# Altium footprint library UQFN-16.PcbLib: 1 footprints
Each footprint in its own frame and in the unit in brackets; x right, y up, seen from the top. Pads: shape width x height; smd on the part's side, far side on the other; paste and mask are expansions set on the pad; w line width, h text height; cw(c..) or ccw(c..) is an arc to the next point about the centre after c.
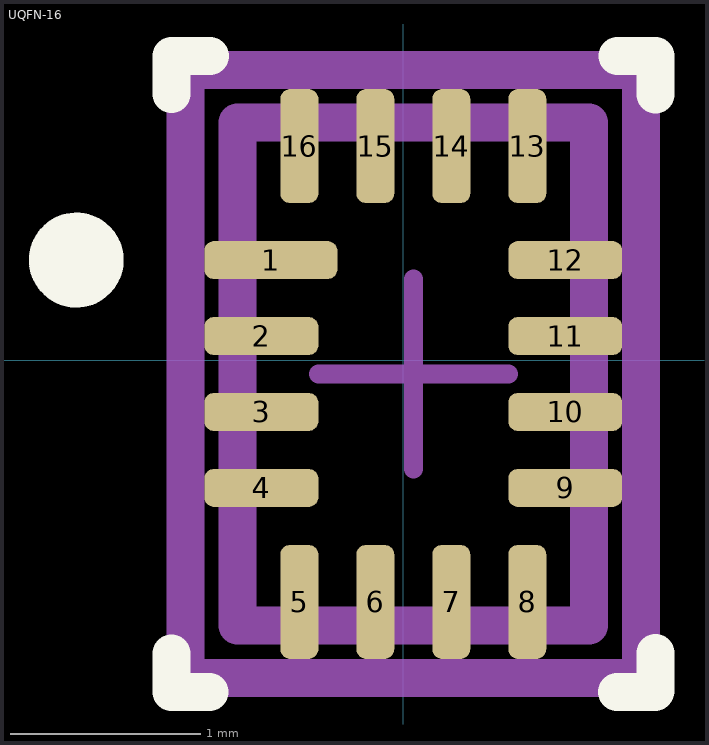
[diagram p0: the footprint, top view; thin cyan lines are the x and y axes]

## UQFN-16 [mm]
pads (16):
  rrect50% 0.7x0.2 smd paste+0 mask+0: 1(-0.696,0.527)
  rrect50% 0.6x0.2 smd paste+0 mask+0: 2(-0.746,0.127) 3(-0.746,-0.273) 4(-0.746,-0.673) 9(0.854,-0.673) 10(0.854,-0.273) 11(0.854,0.127) 12(0.854,0.527)
  rrect50% 0.2x0.6 smd paste+0 mask+0: 5(-0.546,-1.273) 6(-0.146,-1.273) 7(0.254,-1.273) 8(0.654,-1.273) 13(0.654,1.127) 14(0.254,1.127) 15(-0.146,1.127) 16(-0.546,1.127)
Top Overlay:
  circle w0.25: c-1.721,0.527 r0.125
  lines w0.2: -1.22,-1.744 -1.22,-1.544 ; -1.22,-1.748 -1.02,-1.748 ; -1.219,1.402 -1.219,1.602 ; -1.216,1.602 -1.016,1.602 ; 1.126,-1.747 1.326,-1.747 ; 1.128,1.602 1.328,1.602 ; 1.329,-1.742 1.329,-1.542 ; 1.329,1.399 1.329,1.599
Top Assembly:
  lines w0.2: -1.146,-1.673 1.254,-1.673 1.254,1.527 -1.146,1.527 -1.146,-1.673
  text ".Designator" at -0.073,0.242 h1
Top 3D Body:
  lines w0.2: -0.871,-1.398 0.979,-1.398 0.979,1.252 -0.871,1.252 -0.871,-1.398
Top Courtyard:
  lines w0.2: -1.146,-1.673 1.254,-1.673 1.254,1.527 -1.146,1.527 -1.146,-1.673
Top Component Center:
  lines w0.1: -0.446,-0.073 0.554,-0.073 ; 0.054,-0.573 0.054,0.427
3D body "IC_Texas_Instruments_TMUX1108RSVR_eec.STEP": height 0.25, standoff 0, extent -1.146,-1.673 1.254,1.527